# Altium schematic symbol library testpoint.SchLib: 1 symbol
Pins are listed as number, name and electrical type; pins without a type are passive.

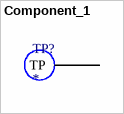
[diagram p0: symbol Component_1]

## Component_1
designator TP?
test point
footprint KSTN-5000 (Test Point, Through Hole, Dia 2.54 mm)
pins: 1 TP "test point"